# Altium footprint library PcbLib1.PcbLib: 264 footprints (part 11 of 17)
Each footprint in its own frame and in the unit in brackets; x right, y up, seen from the top. Pads: shape width x height; smd on the part's side, far side on the other; paste and mask are expansions set on the pad; w line width, h text height; cw(c..) or ccw(c..) is an arc to the next point about the centre after c.
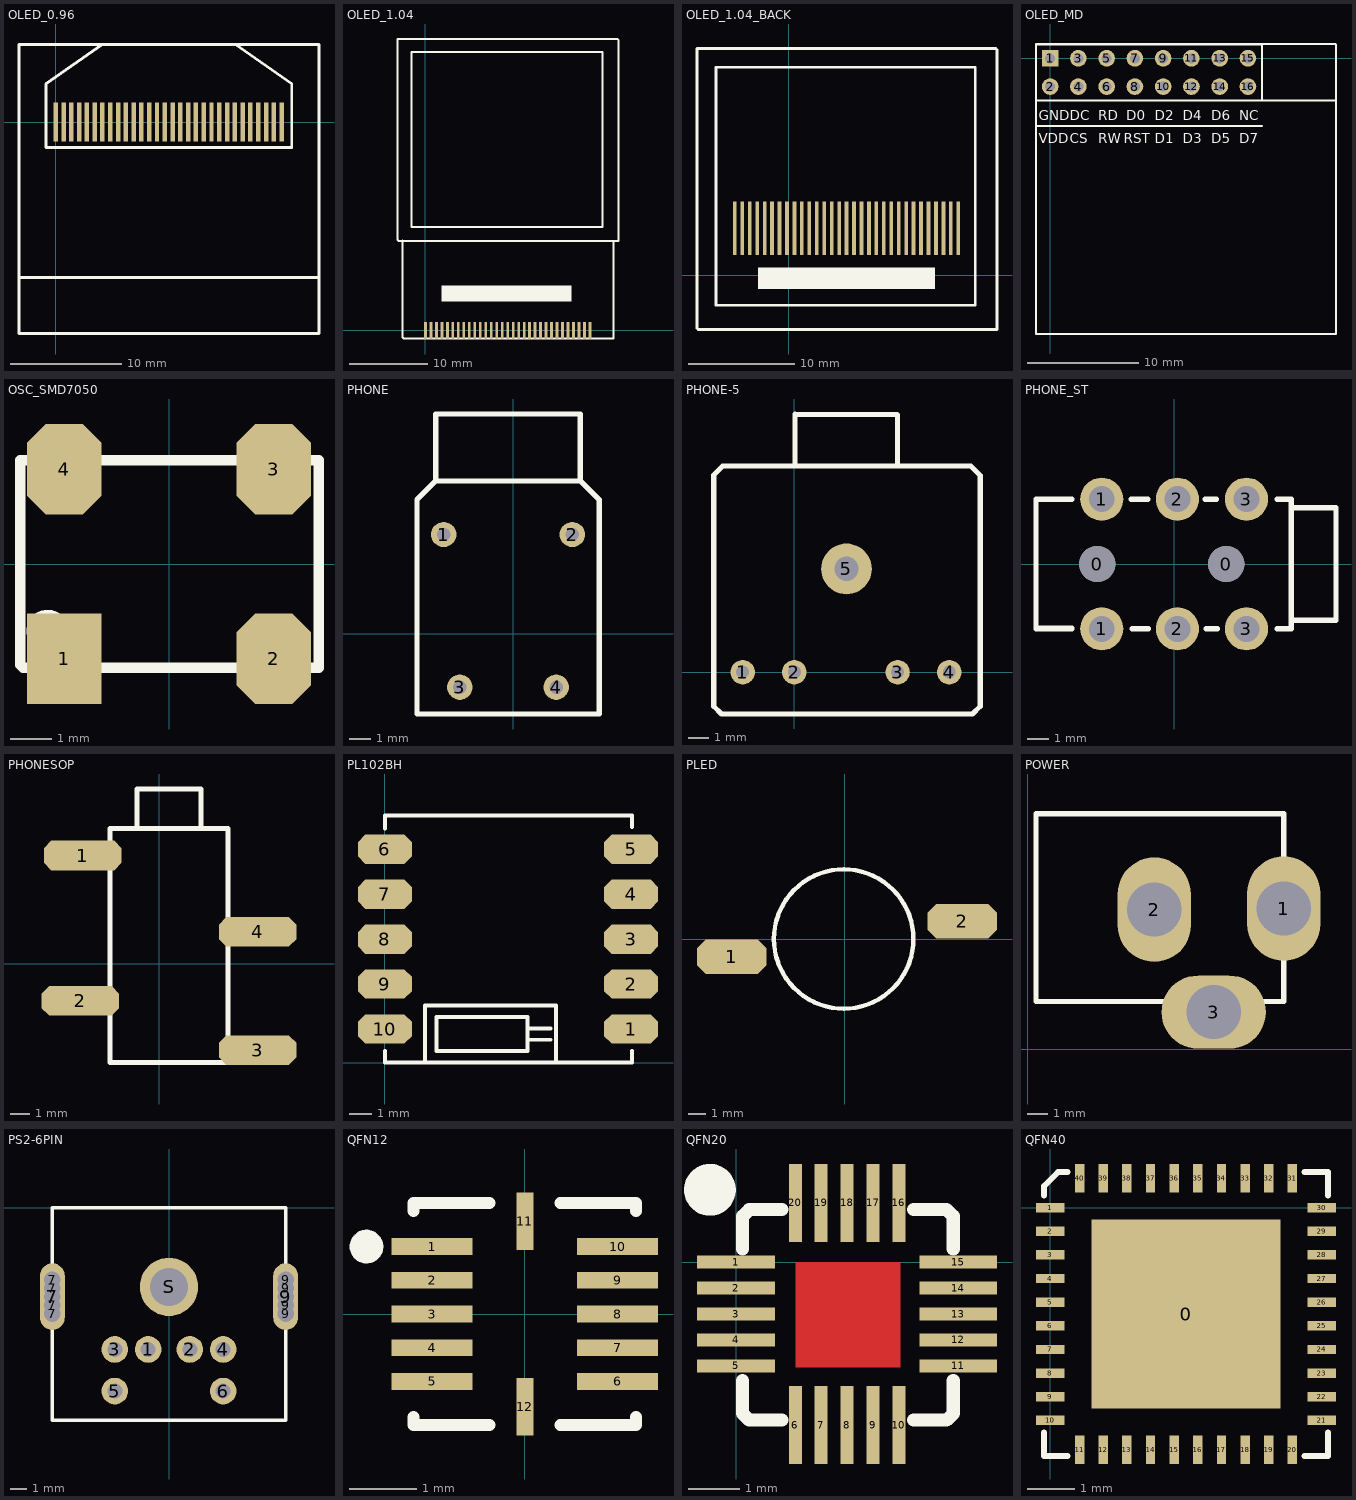
[diagram p10: the footprints below, top view; thin cyan lines are the x and y axes]

## OLED_0.96 [mm] "128*64"
height 0.051
pads (30):
  rect 0.4x3.5 smd: 1(0,0) 2(0.7,0) 3(1.4,0) 4(2.1,0) 5(2.8,0) 6(3.5,0) 7(4.2,0) 8(4.9,0) 9(5.6,0) 10(6.3,0) 11(7,0) 12(7.7,0) 13(8.4,0) 14(9.1,0) 15(9.8,0) 16(10.5,0) 17(11.2,0) 18(11.9,0) 19(12.6,0) 20(13.3,0) 21(14,0) 22(14.7,0) 23(15.4,0) 24(16.1,0) 25(16.8,0) 26(17.5,0) 27(18.2,0) 28(18.9,0) 29(19.6,0) 30(20.3,0)
Top Overlay:
  lines w0.254: -3.302,-13.97 4.572,-13.97 ; 4.191,6.985 -0.889,3.429 -0.889,-2.286 21.209,-2.286 21.209,3.429 16.129,6.985 ; 4.318,-13.97 23.533,-13.97 ; -3.302,-19.015 23.66,-19.015 23.66,6.985 -3.302,6.985 -3.302,-19.015

## OLED_1.04 [mm]
pads (31):
  rect 0.35x2.2 smd: 1(0,0) 2(0.7,0) 3(1.4,0) 4(2.1,0) 5(2.8,0) 6(3.5,0) 7(4.2,0) 8(4.9,0) 9(5.6,0) 10(6.3,0) 11(7,0) 12(7.7,0) 13(8.4,0) 14(9.1,0) 15(9.8,0) 16(10.5,0) 17(11.2,0) 18(11.9,0) 19(12.6,0) 20(13.3,0) 21(14,0) 22(14.7,0) 23(15.4,0) 24(16.1,0) 25(16.8,0) 26(17.5,0) 27(18.2,0) 28(18.9,0) 29(19.6,0) 30(20.3,0) 31(21,0)
Top Overlay:
  rectangle: 2.032,3.683 18.669,5.715
  lines w0.254: -2.921,11.452 -2.921,-0.889 -2.794,-1.016 -2.413,-1.016 23.622,-1.016 ; -2.359,-1.016 -2.159,-1.016 ; 22.987,-1.016 24.003,-1.016 24.003,11.446 ; 24.638,36.449 24.638,37.09 24.517,37.211 -3.556,37.211 -3.556,36.836 -3.556,11.557 -3.429,11.43 24.638,11.43 24.638,36.627 ; -1.778,13.208 -1.778,35.56 22.606,35.56 22.606,35.306 22.606,13.208 -1.778,13.208

## OLED_1.04_BACK [mm]
height 0.051
pads (31):
  rect 0.35x5 smd: 1(-5.08,4.445) 2(-4.38,4.445) 3(-3.68,4.445) 4(-2.98,4.445) 5(-2.28,4.445) 6(-1.58,4.445) 7(-0.88,4.445) 8(-0.18,4.445) 9(0.52,4.445) 10(1.22,4.445) 11(1.92,4.445) 12(2.62,4.445) 13(3.32,4.445) 14(4.02,4.445) 15(4.72,4.445) 16(5.42,4.445) 17(6.12,4.445) 18(6.82,4.445) 19(7.52,4.445) 20(8.22,4.445) 21(8.92,4.445) 22(9.62,4.445) 23(10.32,4.445) 24(11.02,4.445) 25(11.72,4.445) 26(12.42,4.445) 27(13.12,4.445) 28(13.82,4.445) 29(14.52,4.445) 30(15.22,4.445) 31(15.92,4.445)
Top Overlay:
  rectangle: -2.921,-1.27 13.716,0.762
  lines w0.254: 17.526,19.05 17.526,18.796 17.526,19.558 -6.858,19.558 -6.858,-2.794 17.526,-2.794 17.526,19.304 ; 19.558,19.939 19.558,20.58 ; -8.636,-4.953 -8.509,-5.08 19.558,-5.08 19.558,20.117 19.558,21.215 19.437,21.336 -8.636,21.336 -8.636,20.701 -8.636,20.326 -8.636,-4.953

## OLED_MD [mm] "OLED Module;128*64;"
height 10
pads (16):
  rect 1.5x1.5 hole 0.9: 1(0,0)
  round 1.5 hole 0.9: 2(0,-2.54) 3(2.54,0) 4(2.54,-2.54) 5(5.08,0) 6(5.08,-2.54) 7(7.62,0) 8(7.62,-2.54) 9(10.16,0) 10(10.16,-2.54) 11(12.7,0) 12(12.7,-2.54) 13(15.24,0) 14(15.24,-2.54) 15(17.78,0) 16(17.78,-2.54)
Top Overlay:
  lines w0.178: -1.27,-6.096 19.05,-6.096 ; -1.235,-3.775 25.692,-3.775 ; 18.796,1.27 25.654,1.27 ; 19.05,-3.775 19.05,1.27 -1.27,1.27 -1.27,-24.765 25.692,-24.765 25.692,1.235
  lines w0.2: -1.27,1.27 19.05,1.27
  text "NC" at 17.018,-5.588 h0.89
  text "D7" at 17.018,-7.62 h0.89
  text "D5" at 14.478,-7.62 h0.89
  text "D6" at 14.478,-5.588 h0.89
  text "D4" at 11.938,-5.588 h0.89
  text "D3" at 11.938,-7.62 h0.89
  text "D2" at 9.398,-5.588 h0.89
  text "D1" at 9.398,-7.62 h0.89
  text "RST" at 6.604,-7.62 h0.89
  text "D0" at 6.858,-5.588 h0.89
  text "RW" at 4.318,-7.62 h0.89
  text "RD" at 4.318,-5.588 h0.89
  text "CS" at 1.778,-7.62 h0.89
  text "DC" at 1.778,-5.588 h0.89
  text "VDD" at -1.016,-7.62 h0.89
  text "GND" at -1.016,-5.588 h0.89

## OSC_SMD7050 [mm] "XTAL-OSC"
height 1
pads (4):
  rect 1.8x2.2 smd: 1(-2.54,-2.3)
  oct 1.8x2.2 smd: 2(2.54,-2.3) 3(2.54,2.3) 4(-2.54,2.3)
Top Overlay:
  circle w0.254: c-2.946,-1.626 r0.389
  lines w0.254: -3.607,-2.443 -3.607,2.515 3.632,2.515 3.632,-2.515 -3.535,-2.515 -3.607,-2.443

## PHONE [mm]
height 0.6
pads (4):
  round 1.2 hole 0.635: 1(-3.302,4.699) 2(2.794,4.699) 3(-2.54,-2.54) 4(2.032,-2.54)
Top Overlay:
  lines w0.254: -3.683,7.239 3.175,7.239 ; -3.683,7.239 -4.572,6.35 -4.572,-3.81 4.064,-3.81 4.064,6.35 3.175,7.239 ; -3.683,7.239 -3.683,10.414 -0.127,10.414 3.175,10.414 3.175,7.239

## PHONE-5 [mm] "PHONE_5"
height 5
pads (5):
  round 1.2 hole 0.635: 1(-2.54,0) 2(0,0) 3(5.08,0) 4(7.62,0)
  round 2.5 hole 1.2: 5(2.565,5.08)
Top Overlay:
  lines w0.254: 0.025,10.135 0.025,12.7 0.051,12.675 5.055,12.675 5.08,12.649 5.08,10.135 ; -3.962,-1.676 -3.962,9.703 -3.531,10.135 2.565,10.135 8.687,10.135 9.144,9.677 9.144,-1.676 8.763,-2.057 -3.581,-2.057 -3.962,-1.676

## PHONE_ST [mm] "PHONE_ST"
height 9
pads (8):
  round 1.676 hole 1.676: 0(-3.556,0) 0(2.413,0)
  round 2 hole 1.2: 1(-3.35,-3) 1(-3.35,3) 2(0.15,-3) 2(0.15,3) 3(3.35,-3) 3(3.35,3)
Top Overlay:
  lines w0.254: -6.393,-2.969 -4.742,-2.969 ; -4.742,-3.007 -6.393,-3.007 -6.393,3 -4.742,3 ; -1.986,3 -1.224,3 ; -1.948,-3.007 -1.186,-3.007 ; 1.443,3 1.951,3 ; 1.481,-3.007 1.989,-3.007 ; 4.783,-3.007 5.33,-3.007 ; 4.783,3 5.418,3 5.418,-3.007 ; 5.418,-2.6 7.493,-2.6 7.493,2.6 5.418,2.6

## PHONESOP [mil]
height 196.85
pads (4):
  oct 157.48x60 smd: 1(-155,220) 2(-160,-75) 3(200,-175) 4(200,65)
Top Overlay:
  lines w10: -45,275 -45,355 85,355 85,275 ; -100,-200 -100,275 140,275 140,-200 -100,-200

## PL102BH [mm] "PL102BH-2.0"
height 1
pads (10):
  oct 2.4x1.3 smd: 1(10.952,1.492) 2(10.952,3.492) 3(10.952,5.492) 4(10.952,7.492) 5(10.952,9.492) 6(0,9.492) 7(0,7.492) 8(0,5.492) 9(0,3.492) 10(0,1.492)
Top Overlay:
  lines w0.178: 0,0.508 0,0 11,0 11,0.508 ; 0,10.414 0,11 11,11 11,10.492 ; 1.778,0 1.778,2.54 7.62,2.54 7.62,0 ; 6.35,1.016 7.366,1.016 ; 6.35,1.524 7.366,1.524 ; 2.286,0.508 2.286,2.032 6.35,2.032 6.35,0.508 2.286,0.508

## PLED [mm] "POWER LED"
height 5
pads (2):
  oct 4x2 smd: 1(-6.477,-1.016) 2(6.731,1.016)
Top Overlay:
  circle w0.254: c-0.063,0 r4

## POWER [mil] "DC_IN"
height 472.44
pads (3):
  oval 138x197 hole 102: 1(482.32,265.16) 2(238.32,263.16)
  oval 197x138 hole 102: 3(350.32,70.16)
Top Overlay:
  lines w10: 482.32,90.16 15.32,90.16 15.32,444.16 482.32,444.16 482.32,92.16

## PS2-6PIN [mm] "PS2 Socket, 6 Pin, Through Hole"
pads (17):
  round 1.6 hole 0.9: 1(-1.25,-8.5) 2(1.25,-8.5) 3(-3.25,-8.5) 4(3.25,-8.5) 5(-3.25,-11) 6(3.25,-11)
  round 1 hole 1: 7(-7,-6.35) 7(-7,-5.842) 7(-7,-4.826) 7(-7,-4.318) 9(7,-6.35) 9(7,-5.842) 9(7,-4.826) 9(7,-4.318)
  oval 1.5x4 hole 1: 7(-7,-5.334) 9(7,-5.334)
  round 3.5 hole 2.3: S(0,-4.75)
Top Overlay:
  lines w0.2: -7,-12.75 -7,0 7,0 7,-12.75 -7,-12.75

## QFN12 [mm] "QFN, 12-Leads, Body 3.2x3.2mm (max), Pitch 0.50mm, IPC High Density"
height 0.9
pads (12):
  rect 1.2x0.25 smd: 1(-1.375,1) 2(-1.375,0.5) 3(-1.375,0) 4(-1.375,-0.5) 5(-1.375,-1) 6(1.375,-1) 7(1.375,-0.5) 8(1.375,0) 9(1.375,0.5) 10(1.375,1)
  rect 0.25x0.85 smd: 11(0,1.375) 12(0,-1.375)
Top Overlay:
  circle w0.25: c-2.35,1 r0.125
  lines w0.178: -1.65,-1.525 -1.65,-1.65 -0.525,-1.65 ; -1.65,1.525 -1.65,1.65 -0.525,1.65 ; 0.525,-1.65 1.65,-1.65 1.65,-1.525 ; 0.525,1.65 1.65,1.65 1.65,1.525

## QFN20 [mm]
height 1
pads (20):
  rect 1.5x0.25 smd: 1(0,0) 2(0,-0.5) 3(0,-1) 4(0,-1.5) 5(0,-2) 11(4.286,-2) 12(4.286,-1.5) 13(4.286,-1) 14(4.286,-0.5) 15(4.286,0)
  rect 0.25x1.5 smd: 6(1.143,-3.143) 7(1.643,-3.143) 8(2.143,-3.143) 9(2.643,-3.143) 10(3.143,-3.143) 16(3.143,1.143) 17(2.643,1.143) 18(2.143,1.143) 19(1.643,1.143) 20(1.143,1.143)
Top Layer:
  rectangle: 1.143,-2.032 3.175,0
Top Overlay:
  circle w0.5: c-0.504,1.397 r0.25
  lines w0.254: 0.127,-2.286 0.127,-2.921 0.254,-3.048 0.889,-3.048 0.381,-3.048 ; 0.127,0.254 0.127,0.889 0.254,1.016 0.889,1.016 0.381,1.016 ; 3.429,-3.048 4.064,-3.048 4.191,-2.921 4.191,-2.286 ; 3.937,1.016 3.429,1.016 4.064,1.016 4.191,0.889 4.191,0.254

## QFN40 [mm]
pads (41):
  rect 4x4 smd: 0(2.87,-2.25)
  rect 0.6x0.2 smd: 1(0,0) 2(0,-0.5) 3(0,-1) 4(0,-1.5) 5(0,-2) 6(0,-2.5) 7(0,-3) 8(0,-3.5) 9(0,-4) 10(0,-4.5) 21(5.74,-4.5) 22(5.74,-4) 23(5.74,-3.5) 24(5.74,-3) 25(5.74,-2.5) 26(5.74,-2) 27(5.74,-1.5) 28(5.74,-1) 29(5.74,-0.5) 30(5.74,0)
  rect 0.2x0.6 smd: 11(0.62,-5.12) 12(1.12,-5.12) 13(1.62,-5.12) 14(2.12,-5.12) 15(2.62,-5.12) 16(3.12,-5.12) 17(3.62,-5.12) 18(4.12,-5.12) 19(4.62,-5.12) 20(5.12,-5.12) 31(5.12,0.62) 32(4.62,0.62) 33(4.12,0.62) 34(3.62,0.62) 35(3.12,0.62) 36(2.62,0.62) 37(2.12,0.62) 38(1.62,0.62) 39(1.12,0.62) 40(0.62,0.62)
Top Overlay:
  lines w0.127: -0.13,-4.75 -0.13,-5.25 0.37,-5.25 ; -0.13,0.25 -0.13,0.45 0.17,0.75 0.37,0.75 ; 5.37,-5.25 5.87,-5.25 5.87,-4.75 ; 5.37,0.75 5.87,0.75 5.87,0.25